# Altium schematic symbol library lib.SchLib: 7 symbols
Pins are listed as number, name and electrical type; pins without a type are passive.

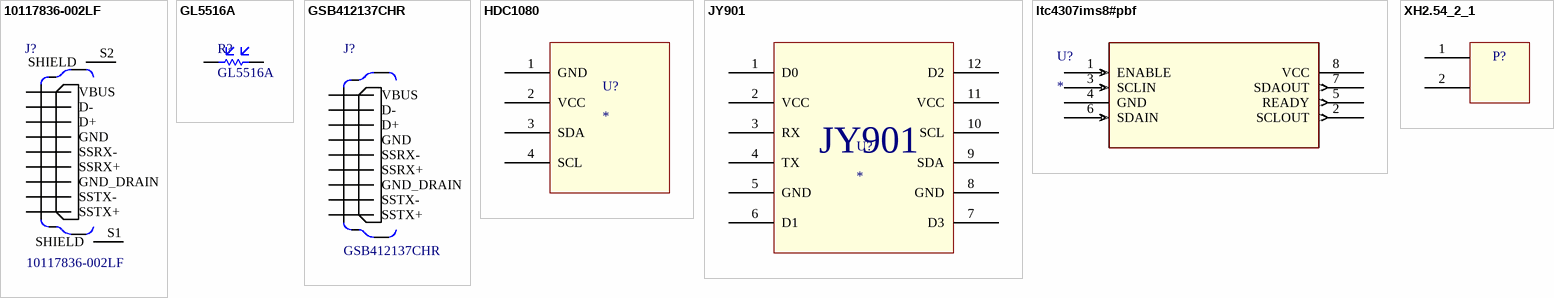
[diagram p0: symbols 10117836-002LF to XH2.54_2_1]

## 10117836-002LF
designator J?
Usb, 3.0 Type A, Receptacle, SMT; Manufacturer: Amphenol FCI; Package: None; Manufacturer Part Number: 10117836-002LF; Digi-Key_Purchase_URL: https://www.digikey.com/product-detail/en/amphenol-fci/10117836-002LF/609-4660-ND/3641378?utm_source=snapeda&utm_medium=aggregator&utm_campaign=symbol; SnapEDA_Link: https://www.snapeda.com/parts/10117836-002LF/Amphenol%20FCI/view-part/?ref=snap; Digi-Key_Part_Number: 609-4660-ND; Value: *
footprint AMPHENOL_10117836-002LF_10117836-002LF(Primary)
pins: 1 VBUS, 2 D-, 3 D+, 4 GND, 5 SSRX-, 6 SSRX+, 7 GND_DRAIN, 8 SSTX-, 9 SSTX+, S1 SHIELD, S2 SHIELD

## GL5516A
designator R?
footprint GL5516A (Footprint not found)
pins: 1, 2

## GSB412137CHR
designator J?
USB3.1, A, Vert, DIP , 30ugold; MF: Amphenol Commercial; Package: None; MP: GSB412137CHR; Digi-Key_Purchase_URL: https://www.digikey.com/product-detail/en/amphenol-commercial-products/GSB412137CHR/GSB412137CHR-ND/4883784?utm_source=snapeda&utm_medium=aggregator&utm_campaign=symbol; SnapEDA_Link: https://www.snapeda.com/parts/GSB412137CHR/Amphenol%20Commercial%20Products/view-part/?ref=snap; Digi-Key_Part_Number: GSB412137CHR-ND; Value: *
footprint AMPHENOL_GSB412137CHR
pins: 1 VBUS, 2 D-, 3 D+, 4 GND, 5 SSRX-, 6 SSRX+, 7 GND_DRAIN, 8 SSTX-, 9 SSTX+

## HDC1080
designator U?
HDC1080
footprint HDC1080
pins: 1 GND, 2 VCC, 3 SDA, 4 SCL

## JY901
designator U?
footprint JY-901
pins: 1 D0, 2 VCC, 3 RX, 4 TX, 5 GND, 6 D1, 7 D3, 8 GND, 9 SDA, 10 SCL, 11 VCC, 12 D2

## ltc4307ims8#pbf
designator U?
Imported; Manufacturer_Part_Number: ltc4307ims8#pbf; Vendor: Linear Technology; Built_By: EMA_UL_Team; RefDes: RefDes; Type: Type; Value: Value
footprint MSOP-8_MS
pins: 1 ENABLE (in), 2 SCLOUT (out), 3 SCLIN (in), 4 GND (power), 5 READY (out), 6 SDAIN (in), 7 SDAOUT (out), 8 VCC (power)

## XH2.54_2_1
designator P?  (value not drawn)
footprint XH2.54_2_1 (Footprint not found)
pins: 1, 2